# EAGLE library part TRANS-2P2S (library Skoba)
TRANSFORMER 2 primary winding, 2 secondary windings, mounting holes BLOCK
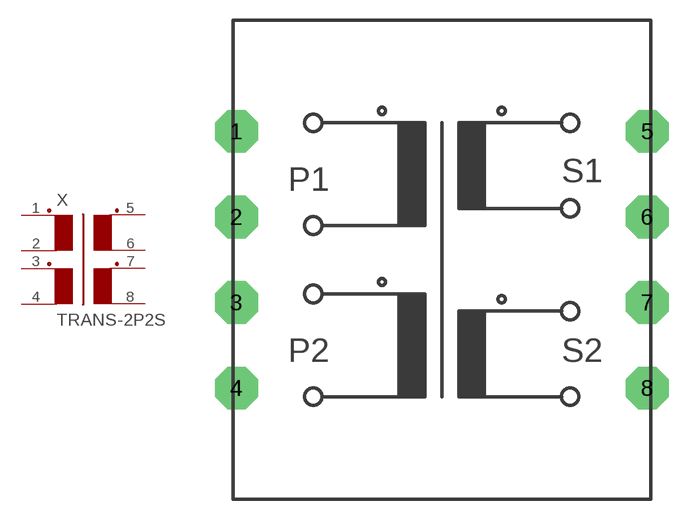
[diagram p8: symbol with the pads of 3FD-3XX; footprint 3FD-3XX]

Designator prefix X

## TRANS-2P2S  [3FD-3XX]
1  P1_1  pas
2  P1_2  pas
3  P2_1  pas
4  P2_2  pas
5  S1_1  pas
6  S1_2  pas
7  S2_1  pas
8  S2_2  pas

## Footprint 3FD-3XX (pad centres in mm)
TRANSFORMER 2 primary winding, 2 secondary windings, mounting holes
drill 1.194 pad 3.175 octagon: 1 -15.24,9.525; 2 -15.24,3.175; 3 -15.24,-3.175; 4 -15.24,-9.525; 5 15.24,9.525; 6 15.24,3.175; 7 15.24,-3.175; 8 15.24,-9.525